# Altium schematic symbol library Atmel AVR.SchLib: 4 symbols
Pins are listed as number, name and electrical type; pins without a type are passive.

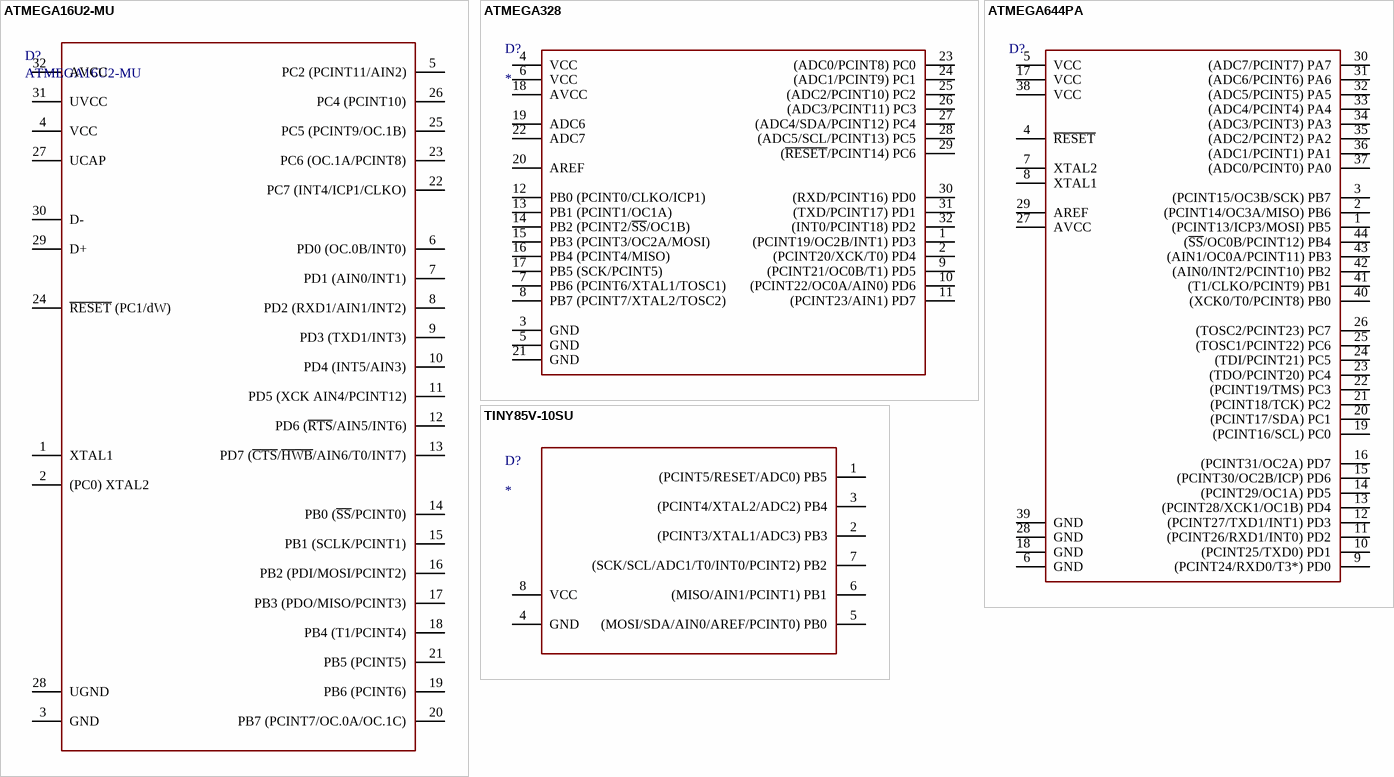
[diagram p0: symbols ATMEGA16U2-MU to TINY85V-10SU]

## ATMEGA16U2-MU
designator D?
pins: 1 XTAL1, 2 (PC0) XTAL2, 3 GND, 4 VCC, 5 PC2 (PCINT11/AIN2), 6 PD0 (OC.0B/INT0), 7 PD1 (AIN0/INT1), 8 PD2 (RXD1/AIN1/INT2), 9 PD3 (TXD1/INT3), 10 PD4 (INT5/AIN3), 11 PD5 (XCK AIN4/PCINT12), 12 PD6 (~{RTS}/AIN5/INT6), 13 PD7 (~{CTS}/~{HWB}/AIN6/T0/INT7), 14 PB0 (~{SS}/PCINT0), 15 PB1 (SCLK/PCINT1), 16 PB2 (PDI/MOSI/PCINT2), 17 PB3 (PDO/MISO/PCINT3), 18 PB4 (T1/PCINT4), 19 PB6 (PCINT6), 20 PB7 (PCINT7/OC.0A/OC.1C), 21 PB5 (PCINT5), 22 PC7 (INT4/ICP1/CLKO), 23 PC6 (OC.1A/PCINT8), 24 ~{RESET} (PC1/dW), 25 PC5 (PCINT9/OC.1B), 26 PC4 (PCINT10), 27 UCAP, 28 UGND, 29 D+, 30 D-, 31 UVCC, 32 AVCC

## ATMEGA328
designator D?
pins: 1 (PCINT19/OC2B/INT1) PD3, 2 (PCINT20/XCK/T0) PD4, 3 GND, 4 VCC, 5 GND, 6 VCC, 7 PB6 (PCINT6/XTAL1/TOSC1), 8 PB7 (PCINT7/XTAL2/TOSC2) , 9 (PCINT21/OC0B/T1) PD5, 10 (PCINT22/OC0A/AIN0) PD6, 11 (PCINT23/AIN1) PD7, 12 PB0 (PCINT0/CLKO/ICP1), 13 PB1 (PCINT1/OC1A), 14 PB2 (PCINT2/~{SS}/OC1B), 15 PB3 (PCINT3/OC2A/MOSI), 16 PB4 (PCINT4/MISO) , 17 PB5 (SCK/PCINT5), 18 AVCC, 19 ADC6, 20 AREF, 21 GND, 22 ADC7, 23 (ADC0/PCINT8) PC0, 24 (ADC1/PCINT9) PC1, 25 (ADC2/PCINT10) PC2, 26 (ADC3/PCINT11) PC3, 27 (ADC4/SDA/PCINT12) PC4, 28 (ADC5/SCL/PCINT13) PC5, 29 (~{RESET}/PCINT14) PC6, 30 (RXD/PCINT16) PD0, 31 (TXD/PCINT17) PD1, 32 (INT0/PCINT18) PD2

## ATMEGA644PA
designator D?  (value not drawn)
pins: 1 (PCINT13/ICP3/MOSI) PB5, 2 (PCINT14/OC3A/MISO) PB6, 3 (PCINT15/OC3B/SCK) PB7, 4 ~{RESET}, 5 VCC, 6 GND, 7 XTAL2, 8 XTAL1, 9 (PCINT24/RXD0/T3*) PD0, 10 (PCINT25/TXD0) PD1, 11 (PCINT26/RXD1/INT0) PD2, 12 (PCINT27/TXD1/INT1) PD3, 13 (PCINT28/XCK1/OC1B) PD4, 14 (PCINT29/OC1A) PD5, 15 (PCINT30/OC2B/ICP) PD6, 16 (PCINT31/OC2A) PD7, 17 VCC, 18 GND, 19 (PCINT16/SCL) PC0, 20 (PCINT17/SDA) PC1, 21 (PCINT18/TCK) PC2, 22 (PCINT19/TMS) PC3, 23 (TDO/PCINT20) PC4, 24 (TDI/PCINT21) PC5, 25 (TOSC1/PCINT22) PC6, 26 (TOSC2/PCINT23) PC7, 27 AVCC, 28 GND, 29 AREF, 30 (ADC7/PCINT7) PA7, 31 (ADC6/PCINT6) PA6, 32 (ADC5/PCINT5) PA5, 33 (ADC4/PCINT4) PA4, 34 (ADC3/PCINT3) PA3, 35 (ADC2/PCINT2) PA2, 36 (ADC1/PCINT1) PA1, 37 (ADC0/PCINT0) PA0, 38 VCC, 39 GND, 40 (XCK0/T0/PCINT8) PB0, 41 (T1/CLKO/PCINT9) PB1, 42 (AIN0/INT2/PCINT10) PB2, 43 (AIN1/OC0A/PCINT11) PB3, 44 (~{SS}/OC0B/PCINT12) PB4

## TINY85V-10SU
designator D?
Tiny85V-10SU mcu
pins: 1 (PCINT5/RESET/ADC0) PB5, 2 (PCINT3/XTAL1/ADC3) PB3, 3 (PCINT4/XTAL2/ADC2) PB4, 4 GND, 5 (MOSI/SDA/AIN0/AREF/PCINT0) PB0, 6 (MISO/AIN1/PCINT1) PB1, 7 (SCK/SCL/ADC1/T0/INT0/PCINT2) PB2, 8 VCC